# Altium schematic symbol library 1825910-6.SCHLIB: 1 symbol
Pins are listed as number, name and electrical type; pins without a type are passive.

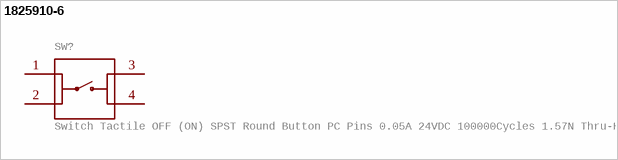
[diagram p0: symbol 1825910-6]

## 1825910-6
designator SW?, comment Switch Tactile OFF (ON) SPST Round Button PC Pins 0.05A 24VDC 100000Cycles 1.57N Thru-Hole Loose Check availability
GateName_1: G$1; SymbolName_1: 1825910-6; MF: TE Connectivity; LibraryName: 1825910-6; DeviceSetName: 1825910-6; Package: SW_1825910-6-4; Package: None; Price: None; Check_prices: https://www.snapeda.com/parts/1825910-6/TE+Connectivity+ALCOSWITCH+Switches/view-part/?ref=eda; SnapEDA_Link: https://www.snapeda.com/parts/1825910-6/TE+Connectivity+ALCOSWITCH+Switches/view-part/?ref=snap; MP: 1825910-6; Availability: In Stock; Purchase-URL: https://www.snapeda.com/api/url_track_click_mouser/?unipart_id=226996&manufacturer=TE Connectivity&part_name=1825910-6&search_term=1825910-6
footprint SW_1825910-6-4
pins: 1, 2, 3, 4